# EAGLE library part TA7136AP (library toshiba)
PRE-AMPLIFIER FOR DUAL POWER SUPPLY VARIUOS HIGH QUALITY PRE-AMPLIFIER Source: at203a-044-ta7136ap.tif
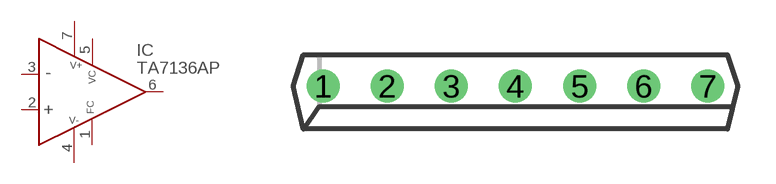
[diagram p2: symbol with the pads of SIP7-P-2.54; footprint SIP7-P-2.54]

Designator prefix IC

## TA7136AP  [SIP7-P-2.54]
1  FREQUCOMP  pas
2  +IN  in
3  -IN  in
4  V-  pwr
5  VOLTCOMP  pas
6  OUT  out
7  V+  pwr

## Footprint SIP7-P-2.54 (pad centres in mm)
SIP7-2.54 5-18A Source: THOSHIBA .. TA7136AP / at203a-044-ta7136ap.tif
drill 0.8 pad 1.27: 1 -7.62,0; 2 -5.08,0; 3 -2.54,0; 4 0,0; 5 2.54,0; 6 5.08,0; 7 7.62,0